# Altium schematic symbol library yu0316-NSC_LDO.SchLib: 2590 symbols (part 64 of 64)
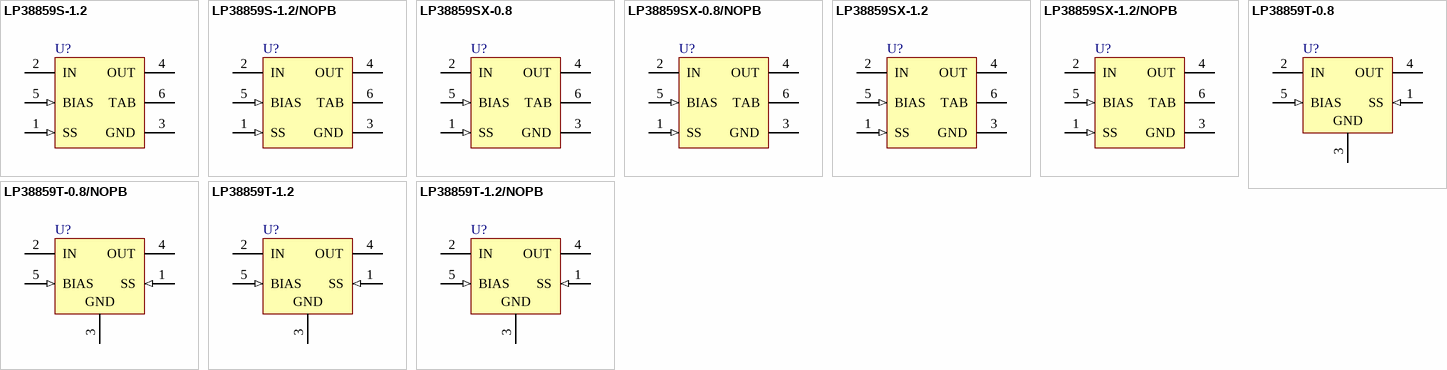
[diagram p128: symbols LP38859S-1.2 to LP38859T-1.2/NOPB]

## LP38859S-1.2
designator U?
3A Fast-Response High-Accuracy LDO Linear Regulator with Soft-Start, 5-pin TO-263; PartNumber: LP38859S-1.2; Manufacturer: National Semiconductor; PackageTopMarking: NSUZXYTTE#*LP38859S*-1.2; PowerWise: Y; CompType: LDO IC; Published: 4-Dec-2008; DatasheetVersion: Nov-2006; PackageVersion: revD, Apr-2005; PackageReference: TS5B; Publisher: Altium Limited; PackageDescription: TO-263, Molded, .400 x .390 x .180in, 5 Lead, .067in Pitch, Surface Mount; Supplier 1: Farnell; Supplier Part Number 1: 1286798; RoHS: N; PinCount: 5; Code_JEDEC: MO-169-AB; ComponentLink1Description: LP38859 Datasheet; ComponentLink1URL: http://www.national.com/ds/LP/LP38859.pdf; ComponentLink2Description: LP38859 Web Page; ComponentLink2URL: http://www.national.com/pf/LP/LP38859.html; ComponentLink3Description: TS5B Package Page; ComponentLink3URL: http://www.national.com/packaging/folders/ts5b.html
footprint TS5B_N (D2-PAK, 6-Leads, Body 8.6x10.2mm, Pitch 1.7mm, Lead Span 14.1mm, IPC Medium Density)
footprint TS5B_L (D2-PAK, 6-Leads, Body 8.6x10.2mm, Pitch 1.7mm, Lead Span 14.1mm, IPC High Density)
footprint TS5B_M (D2-PAK, 6-Leads, Body 8.6x10.2mm, Pitch 1.7mm, Lead Span 14.1mm, IPC Low Density)
pins: 1 SS (in), 2 IN (power), 3 GND (power), 4 OUT (power), 5 BIAS (in), 6 TAB (power)

## LP38859S-1.2/NOPB
designator U?
3A Fast-Response High-Accuracy LDO Linear Regulator with Soft-Start, 5-pin TO-263, Pb-Free; PartNumber: LP38859S-1.2/NOPB; Manufacturer: National Semiconductor; PackageTopMarking: NSUZXYTTE#*LP38859S*-1.2; PowerWise: Y; CompType: LDO IC; Published: 1-Mar-2010; DatasheetVersion: Nov-2006; PackageVersion: revD, Apr-2005; PackageReference: TS5B; Publisher: Altium Limited; PackageDescription: TO-263, Molded, .400 x .390 x .180in, 5 Lead, .067in Pitch, Surface Mount; Supplier 1: Digi-Key; Supplier Part Number 1: LP38859S-1.2-ND; Supplier 2: Farnell; Supplier Part Number 2: 1654269; RoHS: Y; PinCount: 5; Code_JEDEC: MO-169-AB; ComponentLink1Description: LP38859 Datasheet; ComponentLink1URL: http://www.national.com/ds/LP/LP38859.pdf; ComponentLink2Description: LP38859 Web Page; ComponentLink2URL: http://www.national.com/pf/LP/LP38859.html; ComponentLink3Description: TS5B Package Page; ComponentLink3URL: http://www.national.com/packaging/folders/ts5b.html
footprint TS5B_N (D2-PAK, 6-Leads, Body 8.6x10.2mm, Pitch 1.7mm, Lead Span 14.1mm, IPC Medium Density)
footprint TS5B_L (D2-PAK, 6-Leads, Body 8.6x10.2mm, Pitch 1.7mm, Lead Span 14.1mm, IPC High Density)
footprint TS5B_M (D2-PAK, 6-Leads, Body 8.6x10.2mm, Pitch 1.7mm, Lead Span 14.1mm, IPC Low Density)
pins: 1 SS (in), 2 IN (power), 3 GND (power), 4 OUT (power), 5 BIAS (in), 6 TAB (power)

## LP38859SX-0.8
designator U?
3A Fast-Response High-Accuracy LDO Linear Regulator with Soft-Start, 5-pin TO-263; PartNumber: LP38859SX-0.8; Manufacturer: National Semiconductor; PackageTopMarking: NSUZXYTTE#*LP38859S*-0.8; PowerWise: Y; CompType: LDO IC; Published: 1-Mar-2010; DatasheetVersion: Nov-2006; PackageVersion: revD, Apr-2005; PackageReference: TS5B; Publisher: Altium Limited; PackageDescription: TO-263, Molded, .400 x .390 x .180in, 5 Lead, .067in Pitch, Surface Mount; RoHS: N; PinCount: 5; Code_JEDEC: MO-169-AB; ComponentLink1Description: LP38859 Datasheet; ComponentLink1URL: http://www.national.com/ds/LP/LP38859.pdf; ComponentLink2Description: LP38859 Web Page; ComponentLink2URL: http://www.national.com/pf/LP/LP38859.html; ComponentLink3Description: TS5B Package Page; ComponentLink3URL: http://www.national.com/packaging/folders/ts5b.html
footprint TS5B_N (D2-PAK, 6-Leads, Body 8.6x10.2mm, Pitch 1.7mm, Lead Span 14.1mm, IPC Medium Density)
footprint TS5B_L (D2-PAK, 6-Leads, Body 8.6x10.2mm, Pitch 1.7mm, Lead Span 14.1mm, IPC High Density)
footprint TS5B_M (D2-PAK, 6-Leads, Body 8.6x10.2mm, Pitch 1.7mm, Lead Span 14.1mm, IPC Low Density)
pins: 1 SS (in), 2 IN (power), 3 GND (power), 4 OUT (power), 5 BIAS (in), 6 TAB (power)

## LP38859SX-0.8/NOPB
designator U?
3A Fast-Response High-Accuracy LDO Linear Regulator with Soft-Start, 5-pin TO-263, Pb-Free; PartNumber: LP38859SX-0.8/NOPB; Manufacturer: National Semiconductor; PackageTopMarking: NSUZXYTTE#*LP38859S*-0.8; PowerWise: Y; CompType: LDO IC; Published: 1-Mar-2010; DatasheetVersion: Nov-2006; PackageVersion: revD, Apr-2005; PackageReference: TS5B; Publisher: Altium Limited; PackageDescription: TO-263, Molded, .400 x .390 x .180in, 5 Lead, .067in Pitch, Surface Mount; Supplier 1: Digi-Key; Supplier Part Number 1: LP38859SX-0.8-ND; RoHS: Y; PinCount: 5; Code_JEDEC: MO-169-AB; ComponentLink1Description: LP38859 Datasheet; ComponentLink1URL: http://www.national.com/ds/LP/LP38859.pdf; ComponentLink2Description: LP38859 Web Page; ComponentLink2URL: http://www.national.com/pf/LP/LP38859.html; ComponentLink3Description: TS5B Package Page; ComponentLink3URL: http://www.national.com/packaging/folders/ts5b.html
footprint TS5B_N (D2-PAK, 6-Leads, Body 8.6x10.2mm, Pitch 1.7mm, Lead Span 14.1mm, IPC Medium Density)
footprint TS5B_L (D2-PAK, 6-Leads, Body 8.6x10.2mm, Pitch 1.7mm, Lead Span 14.1mm, IPC High Density)
footprint TS5B_M (D2-PAK, 6-Leads, Body 8.6x10.2mm, Pitch 1.7mm, Lead Span 14.1mm, IPC Low Density)
pins: 1 SS (in), 2 IN (power), 3 GND (power), 4 OUT (power), 5 BIAS (in), 6 TAB (power)

## LP38859SX-1.2
designator U?
3A Fast-Response High-Accuracy LDO Linear Regulator with Soft-Start, 5-pin TO-263; PartNumber: LP38859SX-1.2; Manufacturer: National Semiconductor; PackageTopMarking: NSUZXYTTE#*LP38859S*-1.2; PowerWise: Y; CompType: LDO IC; Published: 1-Mar-2010; DatasheetVersion: Nov-2006; PackageVersion: revD, Apr-2005; PackageReference: TS5B; Publisher: Altium Limited; PackageDescription: TO-263, Molded, .400 x .390 x .180in, 5 Lead, .067in Pitch, Surface Mount; RoHS: N; PinCount: 5; Code_JEDEC: MO-169-AB; ComponentLink1Description: LP38859 Datasheet; ComponentLink1URL: http://www.national.com/ds/LP/LP38859.pdf; ComponentLink2Description: LP38859 Web Page; ComponentLink2URL: http://www.national.com/pf/LP/LP38859.html; ComponentLink3Description: TS5B Package Page; ComponentLink3URL: http://www.national.com/packaging/folders/ts5b.html
footprint TS5B_N (D2-PAK, 6-Leads, Body 8.6x10.2mm, Pitch 1.7mm, Lead Span 14.1mm, IPC Medium Density)
footprint TS5B_L (D2-PAK, 6-Leads, Body 8.6x10.2mm, Pitch 1.7mm, Lead Span 14.1mm, IPC High Density)
footprint TS5B_M (D2-PAK, 6-Leads, Body 8.6x10.2mm, Pitch 1.7mm, Lead Span 14.1mm, IPC Low Density)
pins: 1 SS (in), 2 IN (power), 3 GND (power), 4 OUT (power), 5 BIAS (in), 6 TAB (power)

## LP38859SX-1.2/NOPB
designator U?
3A Fast-Response High-Accuracy LDO Linear Regulator with Soft-Start, 5-pin TO-263, Pb-Free; PartNumber: LP38859SX-1.2/NOPB; Manufacturer: National Semiconductor; PackageTopMarking: NSUZXYTTE#*LP38859S*-1.2; PowerWise: Y; CompType: LDO IC; Published: 1-Mar-2010; DatasheetVersion: Nov-2006; PackageVersion: revD, Apr-2005; PackageReference: TS5B; Publisher: Altium Limited; PackageDescription: TO-263, Molded, .400 x .390 x .180in, 5 Lead, .067in Pitch, Surface Mount; Supplier 1: Digi-Key; Supplier Part Number 1: LP38859SX-1.2-ND; RoHS: Y; PinCount: 5; Code_JEDEC: MO-169-AB; ComponentLink1Description: LP38859 Datasheet; ComponentLink1URL: http://www.national.com/ds/LP/LP38859.pdf; ComponentLink2Description: LP38859 Web Page; ComponentLink2URL: http://www.national.com/pf/LP/LP38859.html; ComponentLink3Description: TS5B Package Page; ComponentLink3URL: http://www.national.com/packaging/folders/ts5b.html
footprint TS5B_N (D2-PAK, 6-Leads, Body 8.6x10.2mm, Pitch 1.7mm, Lead Span 14.1mm, IPC Medium Density)
footprint TS5B_L (D2-PAK, 6-Leads, Body 8.6x10.2mm, Pitch 1.7mm, Lead Span 14.1mm, IPC High Density)
footprint TS5B_M (D2-PAK, 6-Leads, Body 8.6x10.2mm, Pitch 1.7mm, Lead Span 14.1mm, IPC Low Density)
pins: 1 SS (in), 2 IN (power), 3 GND (power), 4 OUT (power), 5 BIAS (in), 6 TAB (power)

## LP38859T-0.8
designator U?
3A Fast-Response High-Accuracy LDO Linear Regulator with Soft-Start, 5-pin TO-220; PartNumber: LP38859T-0.8; Manufacturer: National Semiconductor; PackageTopMarking: NSUZXYTTE#*LP38859T*-0.8; PowerWise: Y; CompType: LDO IC; Published: 4-Dec-2008; DatasheetVersion: Nov-2006; PackageVersion: revA, Oct-1989; PackageReference: T05D; Publisher: Altium Limited; PackageDescription: TO-220, Molded, Stagger Bend, 5 Lead; Supplier 1: Farnell; Supplier Part Number 1: 1286799; RoHS: N; PinCount: 5; ComponentLink1Description: LP38859 Datasheet; ComponentLink1URL: http://www.national.com/ds/LP/LP38859.pdf; ComponentLink2Description: LP38859 Web Page; ComponentLink2URL: http://www.national.com/pf/LP/LP38859.html; ComponentLink3Description: T05D Package Page; ComponentLink3URL: http://www.national.com/packaging/folders/t05d.html
footprint T05D (TO, Thru-Hole, Vertical, Heatsink Mounted; 5 Bent Staggered Leads; Body 10.3x8.6x4.6mm, Pitch 1.7 mm)
pins: 1 SS (in), 2 IN (power), 3 GND (power), 4 OUT (power), 5 BIAS (in)

## LP38859T-0.8/NOPB
designator U?
3A Fast-Response High-Accuracy LDO Linear Regulator with Soft-Start, 5-pin TO-220, Pb-Free; PartNumber: LP38859T-0.8/NOPB; Manufacturer: National Semiconductor; PackageTopMarking: NSUZXYTTE#*LP38859T*-0.8; PowerWise: Y; CompType: LDO IC; Published: 1-Mar-2010; DatasheetVersion: Nov-2006; PackageVersion: revA, Oct-1989; PackageReference: T05D; Publisher: Altium Limited; PackageDescription: TO-220, Molded, Stagger Bend, 5 Lead; Supplier 1: Digi-Key; Supplier Part Number 1: LP38859T-0.8-ND; RoHS: Y; PinCount: 5; ComponentLink1Description: LP38859 Datasheet; ComponentLink1URL: http://www.national.com/ds/LP/LP38859.pdf; ComponentLink2Description: LP38859 Web Page; ComponentLink2URL: http://www.national.com/pf/LP/LP38859.html; ComponentLink3Description: T05D Package Page; ComponentLink3URL: http://www.national.com/packaging/folders/t05d.html
footprint T05D (TO, Thru-Hole, Vertical, Heatsink Mounted; 5 Bent Staggered Leads; Body 10.3x8.6x4.6mm, Pitch 1.7 mm)
pins: 1 SS (in), 2 IN (power), 3 GND (power), 4 OUT (power), 5 BIAS (in)

## LP38859T-1.2
designator U?
3A Fast-Response High-Accuracy LDO Linear Regulator with Soft-Start, 5-pin TO-220; PartNumber: LP38859T-1.2; Manufacturer: National Semiconductor; PackageTopMarking: NSUZXYTTE#*LP38859T*-1.2; PowerWise: Y; CompType: LDO IC; Published: 4-Dec-2008; DatasheetVersion: Nov-2006; PackageVersion: revA, Oct-1989; PackageReference: T05D; Publisher: Altium Limited; PackageDescription: TO-220, Molded, Stagger Bend, 5 Lead; Supplier 1: Farnell; Supplier Part Number 1: 1286800; RoHS: N; PinCount: 5; ComponentLink1Description: LP38859 Datasheet; ComponentLink1URL: http://www.national.com/ds/LP/LP38859.pdf; ComponentLink2Description: LP38859 Web Page; ComponentLink2URL: http://www.national.com/pf/LP/LP38859.html; ComponentLink3Description: T05D Package Page; ComponentLink3URL: http://www.national.com/packaging/folders/t05d.html
footprint T05D (TO, Thru-Hole, Vertical, Heatsink Mounted; 5 Bent Staggered Leads; Body 10.3x8.6x4.6mm, Pitch 1.7 mm)
pins: 1 SS (in), 2 IN (power), 3 GND (power), 4 OUT (power), 5 BIAS (in)

## LP38859T-1.2/NOPB
designator U?
3A Fast-Response High-Accuracy LDO Linear Regulator with Soft-Start, 5-pin TO-220, Pb-Free; PartNumber: LP38859T-1.2/NOPB; Manufacturer: National Semiconductor; PackageTopMarking: NSUZXYTTE#*LP38859T*-1.2; PowerWise: Y; CompType: LDO IC; Published: 1-Mar-2010; DatasheetVersion: Nov-2006; PackageVersion: revA, Oct-1989; PackageReference: T05D; Publisher: Altium Limited; PackageDescription: TO-220, Molded, Stagger Bend, 5 Lead; Supplier 1: Digi-Key; Supplier Part Number 1: LP38859T-1.2-ND; RoHS: Y; PinCount: 5; ComponentLink1Description: LP38859 Datasheet; ComponentLink1URL: http://www.national.com/ds/LP/LP38859.pdf; ComponentLink2Description: LP38859 Web Page; ComponentLink2URL: http://www.national.com/pf/LP/LP38859.html; ComponentLink3Description: T05D Package Page; ComponentLink3URL: http://www.national.com/packaging/folders/t05d.html
footprint T05D (TO, Thru-Hole, Vertical, Heatsink Mounted; 5 Bent Staggered Leads; Body 10.3x8.6x4.6mm, Pitch 1.7 mm)
pins: 1 SS (in), 2 IN (power), 3 GND (power), 4 OUT (power), 5 BIAS (in)